# Altium footprint library PCB - CONNECTOR - MOLEX - MOLEX 480370001.PcbLib: 1 footprints
Each footprint in its own frame and in the unit in brackets; x right, y up, seen from the top. Pads: shape width x height; smd on the part's side, far side on the other; paste and mask are expansions set on the pad; w line width, h text height; cw(c..) or ccw(c..) is an arc to the next point about the centre after c.
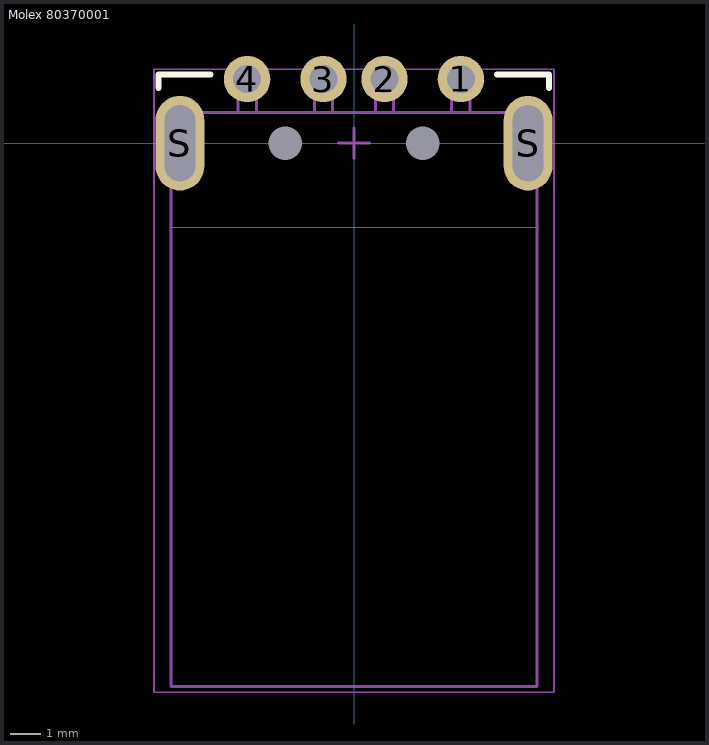
[diagram p0: the footprint, top view; thin cyan lines are the x and y axes]

## Molex 80370001 [mm]
height 4.5
pads (8):
  round 1.52 hole 0.92: 1(3.5,2.1) 2(1,2.1) 3(-1,2.1) 4(-3.5,2.1)
  round 0 hole 1.1 unplated: 5(-2.25,0) 6(2.25,0)
  oval 1.6x3.1 hole 1 slot 2.5 at 90 deg: S(-5.7,0) S(5.7,0)
Top Overlay:
  lines w0.2: -6.4,1.8 -6.4,2.25 -4.7,2.25 ; 4.688,2.252 6.388,2.252 6.388,1.802
Top Component Outline:
  lines w0.025: -6.045,-2.75 6.045,-2.75
  lines w0.1: -6,-17.8 6,-17.8 6,1 -6,1 -6,-17.8 ; -3.8,1 -3.2,1 -3.2,2.1 -3.8,2.1 -3.8,1 ; -1.3,1 -0.7,1 -0.7,2.1 -1.3,2.1 -1.3,1 ; 0.7,1 1.3,1 1.3,2.1 0.7,2.1 0.7,1 ; 3.2,1 3.8,1 3.8,2.1 3.2,2.1 3.2,1
  text "Board Edge" at -2.3,-2.512 h1
Top Courtyard (Mech15):
  lines w0.05: -6.55,-17.98 6.55,-17.98 6.55,2.42 -6.55,2.42 -6.55,-17.98
  lines w0.1: -0.5,0 0,0 ; 0,-0.5 0,0 ; 0,0.5 0,0 ; 0.5,0 0,0
3D body "480370001.stp": height 3.1, standoff -2.87, extent -6.348,-17.775 6.348,2.25